# Altium integrated library Linear Technology Operational Amplifiers (LT2000-LT6000).IntLib: 1710 symbols (part 61 of 75)
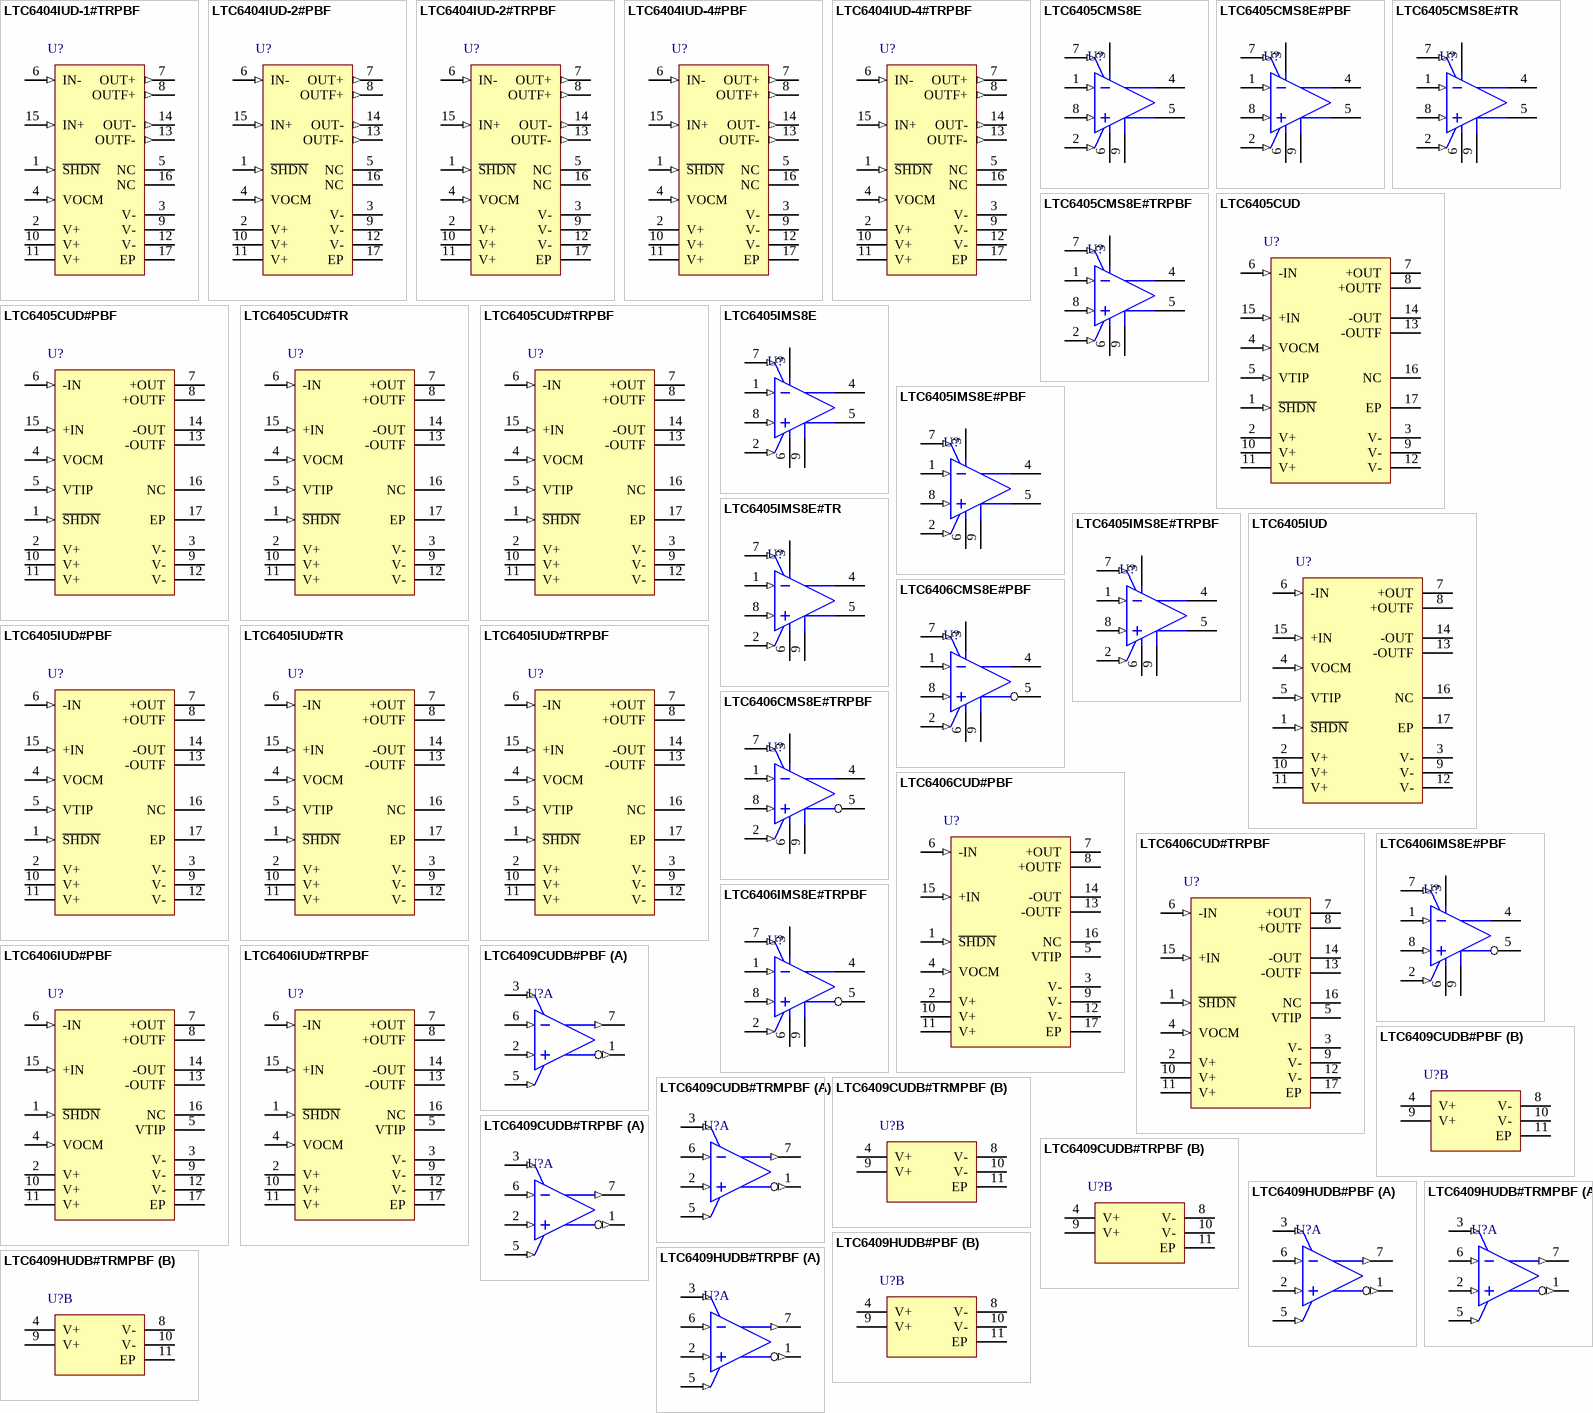
[diagram p140: symbols LTC6404IUD-1#TRPBF to LTC6409HUDB#TRPBF]

## LTC6404IUD-4#PBF
designator U?
Single Channel, Low Noise, High Precision, Fully Differential Input / Output Amplifier / Driver, 1700 MHz Typical GBW, 1200 V/us Typical SR, 2.7 to 5.5 V, 16-Pin QFN (UD-16), Industrial, Pb-Free; Linear Technology Part Number: LTC6404-4; Manufacturer: Linear Technology; PartNumber: LTC6404IUD-4#PBF; Channels (#): 1; GBW (MHz) Typical: 1700; Is (mA) Typical: 30; SR (V/us) Typical: 1200; Vos (mV) Typical: 0.5; Vs Max (V): 5.5; Vs Min (V): 2.7; PackageReference: LT-UD-16; PackageDescription: 16-Lead Plastic QFN, Body 3.00 x 3.00 mm, Pitch 0.5 mm; Supplier 1: Digi-Key; Supplier Part Number 1: LTC6404IUD-4#PBF-ND; Supplier 2: Newark; Supplier Part Number 2: 95M6541; RoHS: Pb-Free; Type: DIFF; Mounting Technology: Surface Mount; Code_JEDEC: MO-220; ComponentLink1Description: Manufacturer URL; ComponentLink1URL: http://www.linear.com/; ComponentLink2Description: Datasheet; ComponentLink2URL: http://cds.linear.com/docs/en/datasheet/6404f.pdf; ComponentLink3Description: Package Specification; ComponentLink3URL: http://cds.linear.com/docs/en/packaging/QFN_16_05-08-1691.pdf
footprint LT-UD-16_N (QFN, 16-Leads, Body 3x3mm, Pitch 0.5mm, Thermal Pad 1.45x1.45mm, IPC Medium Density)
footprint LT-UD-16_L (QFN, 16-Leads, Body 3x3mm, Pitch 0.5mm, Thermal Pad 1.45x1.45mm, IPC High Density)
footprint LT-UD-16_M (QFN, 16-Leads, Body 3x3mm, Pitch 0.5mm, Thermal Pad 1.45x1.45mm, IPC Low Density)
pins: 1 ~{SHDN} (in) "When S\H\D\N\ is floating or directly tied to V+, the LTC6404 is in the normal (active) operating mode. When Pin 1 is pulled a minimum of 2.1V below V+, the LTC6404 enters into a low power shutdown state. See Applications (See Datasheet)", 2 V+ (power) "Power Supply Pins. Three pairs of power supply pins are provided to keep the power supply inductance as low as possible to prevent degradation of amplifier 2nd harmonic performance. See the Layout Considerations section for (See Datasheet)", 3 V- (power) "Power Supply Pins. Three pairs of power supply pins are provided to keep the power supply inductance as low as possible to prevent degradation of amplifier 2nd harmonic performance. See the Layout Considerations section for (See Datasheet)", 4 VOCM (in) "Output Common Mode Reference Voltage. The voltage on VOCM sets the output common mode voltage level (which is defined as the average of the voltages on the OUT+ and OUT- pins). The VOCM pin is the midpoint of an internal (See Datasheet)", 5 NC "No Connection. These pins are not connected internally.", 6 IN- (in) "Noninverting and Inverting Input Pins of the Amplifier, Respectively. For best performance, it is highly recommended that stray capacitance be kept to an absolute minimum by keeping printed circuit connections as short as (See Datasheet)", 7 OUT+ (out) "Unfiltered Output Pins. Besides driving the feedback network, each pin can drive an additional 50ohm to ground with typical short-circuit current limiting of +/-65mA. Each amplifier output is designed to drive a load (See Datasheet)", 8 OUTF+ (out) "Filtered Output Pins. These pins have a series 50ohm resistor connected between the filtered and unfiltered outputs and three 12pF capacitors. Both OUTF+ and OUTF- have 12pF to V-, plus an additional 12pF differentially (See Datasheet)", 9 V- (power) "Power Supply Pins. Three pairs of power supply pins are provided to keep the power supply inductance as low as possible to prevent degradation of amplifier 2nd harmonic performance. See the Layout Considerations section for (See Datasheet)", 10 V+ (power) "Power Supply Pins. Three pairs of power supply pins are provided to keep the power supply inductance as low as possible to prevent degradation of amplifier 2nd harmonic performance. See the Layout Considerations section for (See Datasheet)", 11 V+ (power) "Power Supply Pins. Three pairs of power supply pins are provided to keep the power supply inductance as low as possible to prevent degradation of amplifier 2nd harmonic performance. See the Layout Considerations section for (See Datasheet)", 12 V- (power) "Power Supply Pins. Three pairs of power supply pins are provided to keep the power supply inductance as low as possible to prevent degradation of amplifier 2nd harmonic performance. See the Layout Considerations section for (See Datasheet)", 13 OUTF- (out) "Filtered Output Pins. These pins have a series 50ohm resistor connected between the filtered and unfiltered outputs and three 12pF capacitors. Both OUTF+ and OUTF- have 12pF to V-, plus an additional 12pF differentially (See Datasheet)", 14 OUT- (out) "Unfiltered Output Pins. Besides driving the feedback network, each pin can drive an additional 50ohm to ground with typical short-circuit current limiting of +/-65mA. Each amplifier output is designed to drive a load (See Datasheet)", 15 IN+ (in) "Noninverting and Inverting Input Pins of the Amplifier, Respectively. For best performance, it is highly recommended that stray capacitance be kept to an absolute minimum by keeping printed circuit connections as short as (See Datasheet)", 16 NC "No Connection. These pins are not connected internally.", 17 EP (power) "Tie the pad to V- (Pins 3, 9, and 12). If split supplies are used, do not tie the pad to ground."

## LTC6404IUD-4#TRPBF
designator U?
Single Channel, Low Noise, High Precision, Fully Differential Input / Output Amplifier / Driver, 1700 MHz Typical GBW, 1200 V/us Typical SR, 2.7 to 5.5 V, 16-Pin QFN (UD-16), Industrial, Pb-Free, Reel; Linear Technology Part Number: LTC6404-4; Manufacturer: Linear Technology; PartNumber: LTC6404IUD-4#TRPBF; Channels (#): 1; GBW (MHz) Typical: 1700; Is (mA) Typical: 30; SR (V/us) Typical: 1200; Vos (mV) Typical: 0.5; Vs Max (V): 5.5; Vs Min (V): 2.7; PackageReference: LT-UD-16; PackageDescription: 16-Lead Plastic QFN, Body 3.00 x 3.00 mm, Pitch 0.5 mm; Supplier 1: Digi-Key; Supplier Part Number 1: LTC6404IUD-4#TRPBF-ND; Packing: Reel; RoHS: Pb-Free; Type: DIFF; Mounting Technology: Surface Mount; Code_JEDEC: MO-220; ComponentLink1Description: Manufacturer URL; ComponentLink1URL: http://www.linear.com/; ComponentLink2Description: Datasheet; ComponentLink2URL: http://cds.linear.com/docs/en/datasheet/6404f.pdf; ComponentLink3Description: Package Specification; ComponentLink3URL: http://cds.linear.com/docs/en/packaging/QFN_16_05-08-1691.pdf
footprint LT-UD-16_N (QFN, 16-Leads, Body 3x3mm, Pitch 0.5mm, Thermal Pad 1.45x1.45mm, IPC Medium Density)
footprint LT-UD-16_L (QFN, 16-Leads, Body 3x3mm, Pitch 0.5mm, Thermal Pad 1.45x1.45mm, IPC High Density)
footprint LT-UD-16_M (QFN, 16-Leads, Body 3x3mm, Pitch 0.5mm, Thermal Pad 1.45x1.45mm, IPC Low Density)
pins: 1 ~{SHDN} (in) "When S\H\D\N\ is floating or directly tied to V+, the LTC6404 is in the normal (active) operating mode. When Pin 1 is pulled a minimum of 2.1V below V+, the LTC6404 enters into a low power shutdown state. See Applications (See Datasheet)", 2 V+ (power) "Power Supply Pins. Three pairs of power supply pins are provided to keep the power supply inductance as low as possible to prevent degradation of amplifier 2nd harmonic performance. See the Layout Considerations section for (See Datasheet)", 3 V- (power) "Power Supply Pins. Three pairs of power supply pins are provided to keep the power supply inductance as low as possible to prevent degradation of amplifier 2nd harmonic performance. See the Layout Considerations section for (See Datasheet)", 4 VOCM (in) "Output Common Mode Reference Voltage. The voltage on VOCM sets the output common mode voltage level (which is defined as the average of the voltages on the OUT+ and OUT- pins). The VOCM pin is the midpoint of an internal (See Datasheet)", 5 NC "No Connection. These pins are not connected internally.", 6 IN- (in) "Noninverting and Inverting Input Pins of the Amplifier, Respectively. For best performance, it is highly recommended that stray capacitance be kept to an absolute minimum by keeping printed circuit connections as short as (See Datasheet)", 7 OUT+ (out) "Unfiltered Output Pins. Besides driving the feedback network, each pin can drive an additional 50ohm to ground with typical short-circuit current limiting of +/-65mA. Each amplifier output is designed to drive a load (See Datasheet)", 8 OUTF+ (out) "Filtered Output Pins. These pins have a series 50ohm resistor connected between the filtered and unfiltered outputs and three 12pF capacitors. Both OUTF+ and OUTF- have 12pF to V-, plus an additional 12pF differentially (See Datasheet)", 9 V- (power) "Power Supply Pins. Three pairs of power supply pins are provided to keep the power supply inductance as low as possible to prevent degradation of amplifier 2nd harmonic performance. See the Layout Considerations section for (See Datasheet)", 10 V+ (power) "Power Supply Pins. Three pairs of power supply pins are provided to keep the power supply inductance as low as possible to prevent degradation of amplifier 2nd harmonic performance. See the Layout Considerations section for (See Datasheet)", 11 V+ (power) "Power Supply Pins. Three pairs of power supply pins are provided to keep the power supply inductance as low as possible to prevent degradation of amplifier 2nd harmonic performance. See the Layout Considerations section for (See Datasheet)", 12 V- (power) "Power Supply Pins. Three pairs of power supply pins are provided to keep the power supply inductance as low as possible to prevent degradation of amplifier 2nd harmonic performance. See the Layout Considerations section for (See Datasheet)", 13 OUTF- (out) "Filtered Output Pins. These pins have a series 50ohm resistor connected between the filtered and unfiltered outputs and three 12pF capacitors. Both OUTF+ and OUTF- have 12pF to V-, plus an additional 12pF differentially (See Datasheet)", 14 OUT- (out) "Unfiltered Output Pins. Besides driving the feedback network, each pin can drive an additional 50ohm to ground with typical short-circuit current limiting of +/-65mA. Each amplifier output is designed to drive a load (See Datasheet)", 15 IN+ (in) "Noninverting and Inverting Input Pins of the Amplifier, Respectively. For best performance, it is highly recommended that stray capacitance be kept to an absolute minimum by keeping printed circuit connections as short as (See Datasheet)", 16 NC "No Connection. These pins are not connected internally.", 17 EP (power) "Tie the pad to V- (Pins 3, 9, and 12). If split supplies are used, do not tie the pad to ground."

## LTC6405CMS8E
designator U?
Single Channel, Low Noise, Rail-to-Rail Input Differential Amplifier / Driver, 2700 MHz Typical GBW, 690 V/us Typical SR, 4.5 to 5.5 V, 8-Pin SOP (MS8E-8), Commercial; Linear Technology Part Number: LTC6405; Manufacturer: Linear Technology; PartNumber: LTC6405CMS8E; Channels (#): 1; GBW (MHz) Typical: 2700; Is (mA) Typical: 18; SR (V/us) Typical: 690; Vos (mV) Typical: 6; Vs Max (V): 5.5; Vs Min (V): 4.5; DatasheetVersion: Rev. A; PackageVersion: Rev J; PackageReference: LT-MS8E-8-EDP; PackageDescription: 8-Lead Plastic MSOP, Body 3.00 x 3.00 mm. Pitch 0.65 mm; Type: DIFF; Mounting Technology: Surface Mount; ComponentLink1Description: Manufacturer URL; ComponentLink1URL: http://www.linear.com/; ComponentLink2Description: Datasheet; ComponentLink2URL: http://cds.linear.com/docs/en/datasheet/6405fa.pdf; ComponentLink3Description: Package Specification; ComponentLink3URL: http://cds.linear.com/docs/en/packaging/05081662_J_MS8E.pdf
footprint LT-MS8E-8-EDP_N (SOP, 8-Leads, Body 3x3mm, Pitch 0.65mm, Thermal Pad 1.88x1.68mm, IPC Medium Density)
footprint LT-MS8E-8-EDP_L (SOP, 8-Leads, Body 3x3mm, Pitch 0.65mm, Thermal Pad 1.88x1.68mm, IPC High Density)
footprint LT-MS8E-8-EDP_M (SOP, 8-Leads, Body 3x3mm, Pitch 0.65mm, Thermal Pad 1.88x1.68mm, IPC Low Density)
pins: 1 -IN (in) "Inverting  Pin of the Amplifi er, Respectively. For best perfor- mance, it is highly recommended that stray capacitance  be kept to an absolute minimum by keeping printed circuit  connections as short as possible.", 2 VOCM (in) "Output Common Mode Reference  Voltage. The voltage on VOCM sets the output common  mode voltage level (which is defi ned as the average of the  voltages on the +OUT and -OUT pins). The VOCM voltage  is internally set by a (See Datasheet)", 3 V+ (power) "Power Supply Pins. It is critical that close attention be  paid to supply bypassing. For single supply applications,  it is recommended that a high quality 0.1uF surface mount  ceramic bypass capacitor be placed between V+ (See Datasheet)", 4 +OUT (hiz) "Unfi ltered Output  Pins. Besides driving the feedback network, each pin  can drive an additional 50ohm to ground with typical short  circuit current limiting of +/-60mA. Each amplifi er output is designed to drive a load (See Datasheet)", 5 -OUT (hiz) "Unfi ltered Output  Pins. Besides driving the feedback network, each pin  can drive an additional 50ohm to ground with typical short  circuit current limiting of +/-60mA. Each amplifi er output is designed to drive a load (See Datasheet)", 6 V- (power) "Power Supply Pins. It is critical that close attention be  paid to supply bypassing. For single supply applications,  it is recommended that a high quality 0.1uF surface mount  ceramic bypass capacitor be placed between V+ (See Datasheet)", 7 ~{SHDN} (in) "When S\H\D\N\ is fl oating or directly  tied to V+, the LTC6405 is in the normal (active) operat- ing mode. When the S\H\D\N\ pin is connected to V-, the  LTC6405 enters into a low power shutdown state with  Hi-Z outputs.", 8 +IN (in) "Noninverting Pin of the Amplifi er, Respectively. For best perfor- mance, it is highly recommended that stray capacitance  be kept to an absolute minimum by keeping printed circuit  connections as short as possible.", 9 EP (power) "EXPOSED PAD"

## LTC6405CMS8E#PBF
designator U?
Single Channel, Low Noise, Rail-to-Rail Input Differential Amplifier / Driver, 2700 MHz Typical GBW, 690 V/us Typical SR, 4.5 to 5.5 V, 8-Pin SOP (MS8E-8), Commercial, Pb-Free; Linear Technology Part Number: LTC6405; Manufacturer: Linear Technology; PartNumber: LTC6405CMS8E#PBF; Channels (#): 1; GBW (MHz) Typical: 2700; Is (mA) Typical: 18; SR (V/us) Typical: 690; Vos (mV) Typical: 6; Vs Max (V): 5.5; Vs Min (V): 4.5; DatasheetVersion: Rev. A; PackageVersion: Rev J; PackageReference: LT-MS8E-8-EDP; PackageDescription: 8-Lead Plastic MSOP, Body 3.00 x 3.00 mm. Pitch 0.65 mm; Supplier 1: Digi-Key; Supplier Part Number 1: LTC6405CMS8E#PBF-ND; Supplier 2: Farnell; Supplier Part Number 2: 1696239; Supplier 3: Newark; Supplier Part Number 3: 44P3995; RoHS: Pb-Free; Type: DIFF; Mounting Technology: Surface Mount; ComponentLink1Description: Manufacturer URL; ComponentLink1URL: http://www.linear.com/; ComponentLink2Description: Datasheet; ComponentLink2URL: http://cds.linear.com/docs/en/datasheet/6405fa.pdf; ComponentLink3Description: Package Specification; ComponentLink3URL: http://cds.linear.com/docs/en/packaging/05081662_J_MS8E.pdf
footprint LT-MS8E-8-EDP_N (SOP, 8-Leads, Body 3x3mm, Pitch 0.65mm, Thermal Pad 1.88x1.68mm, IPC Medium Density)
footprint LT-MS8E-8-EDP_L (SOP, 8-Leads, Body 3x3mm, Pitch 0.65mm, Thermal Pad 1.88x1.68mm, IPC High Density)
footprint LT-MS8E-8-EDP_M (SOP, 8-Leads, Body 3x3mm, Pitch 0.65mm, Thermal Pad 1.88x1.68mm, IPC Low Density)
pins: 1 -IN (in) "Inverting  Pin of the Amplifi er, Respectively. For best perfor- mance, it is highly recommended that stray capacitance  be kept to an absolute minimum by keeping printed circuit  connections as short as possible.", 2 VOCM (in) "Output Common Mode Reference  Voltage. The voltage on VOCM sets the output common  mode voltage level (which is defi ned as the average of the  voltages on the +OUT and -OUT pins). The VOCM voltage  is internally set by a (See Datasheet)", 3 V+ (power) "Power Supply Pins. It is critical that close attention be  paid to supply bypassing. For single supply applications,  it is recommended that a high quality 0.1uF surface mount  ceramic bypass capacitor be placed between V+ (See Datasheet)", 4 +OUT (hiz) "Unfi ltered Output  Pins. Besides driving the feedback network, each pin  can drive an additional 50ohm to ground with typical short  circuit current limiting of +/-60mA. Each amplifi er output is designed to drive a load (See Datasheet)", 5 -OUT (hiz) "Unfi ltered Output  Pins. Besides driving the feedback network, each pin  can drive an additional 50ohm to ground with typical short  circuit current limiting of +/-60mA. Each amplifi er output is designed to drive a load (See Datasheet)", 6 V- (power) "Power Supply Pins. It is critical that close attention be  paid to supply bypassing. For single supply applications,  it is recommended that a high quality 0.1uF surface mount  ceramic bypass capacitor be placed between V+ (See Datasheet)", 7 ~{SHDN} (in) "When S\H\D\N\ is fl oating or directly  tied to V+, the LTC6405 is in the normal (active) operat- ing mode. When the S\H\D\N\ pin is connected to V-, the  LTC6405 enters into a low power shutdown state with  Hi-Z outputs.", 8 +IN (in) "Noninverting Pin of the Amplifi er, Respectively. For best perfor- mance, it is highly recommended that stray capacitance  be kept to an absolute minimum by keeping printed circuit  connections as short as possible.", 9 EP (power) "EXPOSED PAD"

## LTC6405CMS8E#TR
designator U?
Single Channel, Low Noise, Rail-to-Rail Input Differential Amplifier / Driver, 2700 MHz Typical GBW, 690 V/us Typical SR, 4.5 to 5.5 V, 8-Pin SOP (MS8E-8), Commercial, Reel; Linear Technology Part Number: LTC6405; Manufacturer: Linear Technology; PartNumber: LTC6405CMS8E#TR; Channels (#): 1; GBW (MHz) Typical: 2700; Is (mA) Typical: 18; SR (V/us) Typical: 690; Vos (mV) Typical: 6; Vs Max (V): 5.5; Vs Min (V): 4.5; DatasheetVersion: Rev. A; PackageVersion: Rev J; PackageReference: LT-MS8E-8-EDP; PackageDescription: 8-Lead Plastic MSOP, Body 3.00 x 3.00 mm. Pitch 0.65 mm; Supplier 1: Newark; Supplier Part Number 1: 44P3996; Packing: Reel; Type: DIFF; Mounting Technology: Surface Mount; ComponentLink1Description: Manufacturer URL; ComponentLink1URL: http://www.linear.com/; ComponentLink2Description: Datasheet; ComponentLink2URL: http://cds.linear.com/docs/en/datasheet/6405fa.pdf; ComponentLink3Description: Package Specification; ComponentLink3URL: http://cds.linear.com/docs/en/packaging/05081662_J_MS8E.pdf
footprint LT-MS8E-8-EDP_N (SOP, 8-Leads, Body 3x3mm, Pitch 0.65mm, Thermal Pad 1.88x1.68mm, IPC Medium Density)
footprint LT-MS8E-8-EDP_L (SOP, 8-Leads, Body 3x3mm, Pitch 0.65mm, Thermal Pad 1.88x1.68mm, IPC High Density)
footprint LT-MS8E-8-EDP_M (SOP, 8-Leads, Body 3x3mm, Pitch 0.65mm, Thermal Pad 1.88x1.68mm, IPC Low Density)
pins: 1 -IN (in) "Inverting  Pin of the Amplifi er, Respectively. For best perfor- mance, it is highly recommended that stray capacitance  be kept to an absolute minimum by keeping printed circuit  connections as short as possible.", 2 VOCM (in) "Output Common Mode Reference  Voltage. The voltage on VOCM sets the output common  mode voltage level (which is defi ned as the average of the  voltages on the +OUT and -OUT pins). The VOCM voltage  is internally set by a (See Datasheet)", 3 V+ (power) "Power Supply Pins. It is critical that close attention be  paid to supply bypassing. For single supply applications,  it is recommended that a high quality 0.1uF surface mount  ceramic bypass capacitor be placed between V+ (See Datasheet)", 4 +OUT (hiz) "Unfi ltered Output  Pins. Besides driving the feedback network, each pin  can drive an additional 50ohm to ground with typical short  circuit current limiting of +/-60mA. Each amplifi er output is designed to drive a load (See Datasheet)", 5 -OUT (hiz) "Unfi ltered Output  Pins. Besides driving the feedback network, each pin  can drive an additional 50ohm to ground with typical short  circuit current limiting of +/-60mA. Each amplifi er output is designed to drive a load (See Datasheet)", 6 V- (power) "Power Supply Pins. It is critical that close attention be  paid to supply bypassing. For single supply applications,  it is recommended that a high quality 0.1uF surface mount  ceramic bypass capacitor be placed between V+ (See Datasheet)", 7 ~{SHDN} (in) "When S\H\D\N\ is fl oating or directly  tied to V+, the LTC6405 is in the normal (active) operat- ing mode. When the S\H\D\N\ pin is connected to V-, the  LTC6405 enters into a low power shutdown state with  Hi-Z outputs.", 8 +IN (in) "Noninverting Pin of the Amplifi er, Respectively. For best perfor- mance, it is highly recommended that stray capacitance  be kept to an absolute minimum by keeping printed circuit  connections as short as possible.", 9 EP (power) "EXPOSED PAD"

## LTC6405CMS8E#TRPBF
designator U?
Single Channel, Low Noise, Rail-to-Rail Input Differential Amplifier / Driver, 2700 MHz Typical GBW, 690 V/us Typical SR, 4.5 to 5.5 V, 8-Pin SOP (MS8E-8), Commercial, Pb-Free, Reel; Linear Technology Part Number: LTC6405; Manufacturer: Linear Technology; PartNumber: LTC6405CMS8E#TRPBF; Channels (#): 1; GBW (MHz) Typical: 2700; Is (mA) Typical: 18; SR (V/us) Typical: 690; Vos (mV) Typical: 6; Vs Max (V): 5.5; Vs Min (V): 4.5; DatasheetVersion: Rev. A; PackageVersion: Rev J; PackageReference: LT-MS8E-8-EDP; PackageDescription: 8-Lead Plastic MSOP, Body 3.00 x 3.00 mm. Pitch 0.65 mm; Supplier 1: Digi-Key; Supplier Part Number 1: LTC6405CMS8E#TRPBF-ND; Supplier 2: Newark; Supplier Part Number 2: 44P3997; Packing: Reel; RoHS: Pb-Free; Type: DIFF; Mounting Technology: Surface Mount; ComponentLink1Description: Manufacturer URL; ComponentLink1URL: http://www.linear.com/; ComponentLink2Description: Datasheet; ComponentLink2URL: http://cds.linear.com/docs/en/datasheet/6405fa.pdf; ComponentLink3Description: Package Specification; ComponentLink3URL: http://cds.linear.com/docs/en/packaging/05081662_J_MS8E.pdf
footprint LT-MS8E-8-EDP_N (SOP, 8-Leads, Body 3x3mm, Pitch 0.65mm, Thermal Pad 1.88x1.68mm, IPC Medium Density)
footprint LT-MS8E-8-EDP_L (SOP, 8-Leads, Body 3x3mm, Pitch 0.65mm, Thermal Pad 1.88x1.68mm, IPC High Density)
footprint LT-MS8E-8-EDP_M (SOP, 8-Leads, Body 3x3mm, Pitch 0.65mm, Thermal Pad 1.88x1.68mm, IPC Low Density)
pins: 1 -IN (in) "Inverting  Pin of the Amplifi er, Respectively. For best perfor- mance, it is highly recommended that stray capacitance  be kept to an absolute minimum by keeping printed circuit  connections as short as possible.", 2 VOCM (in) "Output Common Mode Reference  Voltage. The voltage on VOCM sets the output common  mode voltage level (which is defi ned as the average of the  voltages on the +OUT and -OUT pins). The VOCM voltage  is internally set by a (See Datasheet)", 3 V+ (power) "Power Supply Pins. It is critical that close attention be  paid to supply bypassing. For single supply applications,  it is recommended that a high quality 0.1uF surface mount  ceramic bypass capacitor be placed between V+ (See Datasheet)", 4 +OUT (hiz) "Unfi ltered Output  Pins. Besides driving the feedback network, each pin  can drive an additional 50ohm to ground with typical short  circuit current limiting of +/-60mA. Each amplifi er output is designed to drive a load (See Datasheet)", 5 -OUT (hiz) "Unfi ltered Output  Pins. Besides driving the feedback network, each pin  can drive an additional 50ohm to ground with typical short  circuit current limiting of +/-60mA. Each amplifi er output is designed to drive a load (See Datasheet)", 6 V- (power) "Power Supply Pins. It is critical that close attention be  paid to supply bypassing. For single supply applications,  it is recommended that a high quality 0.1uF surface mount  ceramic bypass capacitor be placed between V+ (See Datasheet)", 7 ~{SHDN} (in) "When S\H\D\N\ is fl oating or directly  tied to V+, the LTC6405 is in the normal (active) operat- ing mode. When the S\H\D\N\ pin is connected to V-, the  LTC6405 enters into a low power shutdown state with  Hi-Z outputs.", 8 +IN (in) "Noninverting Pin of the Amplifi er, Respectively. For best perfor- mance, it is highly recommended that stray capacitance  be kept to an absolute minimum by keeping printed circuit  connections as short as possible.", 9 EP (power) "EXPOSED PAD"

## LTC6405CUD
designator U?
Single Channel, Low Noise, Rail-to-Rail Input Differential Amplifier / Driver, 2700 MHz Typical GBW, 690 V/us Typical SR, 4.5 to 5.5 V, 16-Pin QFN (UD-16), Commercial; Linear Technology Part Number: LTC6405; Manufacturer: Linear Technology; PartNumber: LTC6405CUD; Channels (#): 1; GBW (MHz) Typical: 2700; Is (mA) Typical: 18; SR (V/us) Typical: 690; Vos (mV) Typical: 6; Vs Max (V): 5.5; Vs Min (V): 4.5; DatasheetVersion: Rev. A; PackageReference: LT-UD-16; PackageDescription: 16-Lead Plastic QFN, Body 3.00 x 3.00 mm, Pitch 0.5 mm; Supplier 1: Farnell; Supplier Part Number 1: 1647764; Type: DIFF; Mounting Technology: Surface Mount; Code_JEDEC: MO-220; ComponentLink1Description: Manufacturer URL; ComponentLink1URL: http://www.linear.com/; ComponentLink2Description: Datasheet; ComponentLink2URL: http://cds.linear.com/docs/en/datasheet/6405fa.pdf; ComponentLink3Description: Package Specification; ComponentLink3URL: http://cds.linear.com/docs/en/packaging/QFN_16_05-08-1691.pdf
footprint LT-UD-16_N (QFN, 16-Leads, Body 3x3mm, Pitch 0.5mm, Thermal Pad 1.45x1.45mm, IPC Medium Density)
footprint LT-UD-16_L (QFN, 16-Leads, Body 3x3mm, Pitch 0.5mm, Thermal Pad 1.45x1.45mm, IPC High Density)
footprint LT-UD-16_M (QFN, 16-Leads, Body 3x3mm, Pitch 0.5mm, Thermal Pad 1.45x1.45mm, IPC Low Density)
pins: 1 ~{SHDN} (in) "When S\H\D\N\ is fl oating or directly tied to V+, the LTC6405 is in the normal (active) operating mode. When the S\H\D\N\ pin is connected to V-, the LTC6405 enters into a low power shutdown state with Hi-Z outputs.", 2 V+ (power) "Power Supply Pins. It is critical that close attention be paid to supply bypassing. For single supply applications, it is recommended that a high quality 0.1uF surface mount ceramic bypass capacitor be placed between V+ and (See Datasheet)", 3 V- (power) "Power Supply Pins. It is critical that close attention be paid to supply bypassing. For single supply applications, it is recommended that a high quality 0.1uF surface mount ceramic bypass capacitor be placed between V+ and (See Datasheet)", 4 VOCM (in) "Output Common Mode Reference Voltage. The voltage on VOCM sets the output common mode voltage level (which is defi ned as the average of the voltages on the +OUT and -OUT pins). The VOCM voltage is internally set by a (See Datasheet)", 5 VTIP (in) "This pin can normally be left fl oating. It determines which pair of input transistors (NPN or PNP or both) is sensing the input signal. The VTIP pin is set by an internal resistive divider between the supplies, developing a (See Datasheet)", 6 -IN (in) "Noninverting and Inverting Input Pins of the Amplifi er, Respectively. For best performance, it is highly recommended that stray capacitance be kept to an absolute minimum by keeping printed circuit connections as short as (See Datasheet)", 7 +OUT (hiz) "Unfi ltered Output Pins. Besides driving the feedback network, each pin can drive an additional 50ohm to ground with typical short circuit current limiting of +/-60mA. Each amplifi er output is designed to drive a load (See Datasheet)", 8 +OUTF (hiz) "Filtered Output Pins. These pins have a series RC network (R = 50ohm, C = 3.75pF) connected between the fi ltered and unfi ltered outputs. See the Applications Information section for more details.", 9 V- (power) "Power Supply Pins. It is critical that close attention be paid to supply bypassing. For single supply applications, it is recommended that a high quality 0.1uF surface mount ceramic bypass capacitor be placed between V+ and (See Datasheet)", 10 V+ (power) "Power Supply Pins. It is critical that close attention be paid to supply bypassing. For single supply applications, it is recommended that a high quality 0.1uF surface mount ceramic bypass capacitor be placed between V+ and (See Datasheet)", 11 V+ (power) "Power Supply Pins. It is critical that close attention be paid to supply bypassing. For single supply applications, it is recommended that a high quality 0.1uF surface mount ceramic bypass capacitor be placed between V+ and (See Datasheet)", 12 V- (power) "Power Supply Pins. It is critical that close attention be paid to supply bypassing. For single supply applications, it is recommended that a high quality 0.1uF surface mount ceramic bypass capacitor be placed between V+ and (See Datasheet)", 13 -OUTF (hiz) "Filtered Output Pins. These pins have a series RC network (R = 50ohm, C = 3.75pF) connected between the fi ltered and unfi ltered outputs. See the Applications Information section for more details.", 14 -OUT (hiz) "Unfi ltered Output Pins. Besides driving the feedback network, each pin can drive an additional 50ohm to ground with typical short circuit current limiting of +/-60mA. Each amplifi er output is designed to drive a load (See Datasheet)", 15 +IN (in) "Noninverting and Inverting Input Pins of the Amplifi er, Respectively. For best performance, it is highly recommended that stray capacitance be kept to an absolute minimum by keeping printed circuit connections as short as (See Datasheet)", 16 NC "No Connection. This pin is not connected internally.", 17 EP (power) "Tie the bottom pad to V-. If split supplies are used, DO NOT tie the pad to ground."

## LTC6405CUD#PBF
designator U?
Single Channel, Low Noise, Rail-to-Rail Input Differential Amplifier / Driver, 2700 MHz Typical GBW, 690 V/us Typical SR, 4.5 to 5.5 V, 16-Pin QFN (UD-16), Commercial, Pb-Free; Linear Technology Part Number: LTC6405; Manufacturer: Linear Technology; PartNumber: LTC6405CUD#PBF; Channels (#): 1; GBW (MHz) Typical: 2700; Is (mA) Typical: 18; SR (V/us) Typical: 690; Vos (mV) Typical: 6; Vs Max (V): 5.5; Vs Min (V): 4.5; DatasheetVersion: Rev. A; PackageReference: LT-UD-16; PackageDescription: 16-Lead Plastic QFN, Body 3.00 x 3.00 mm, Pitch 0.5 mm; Supplier 1: Digi-Key; Supplier Part Number 1: LTC6405CUD#PBF-ND; Supplier 2: Newark; Supplier Part Number 2: 15N3551; RoHS: Pb-Free; Type: DIFF; Mounting Technology: Surface Mount; Code_JEDEC: MO-220; ComponentLink1Description: Manufacturer URL; ComponentLink1URL: http://www.linear.com/; ComponentLink2Description: Datasheet; ComponentLink2URL: http://cds.linear.com/docs/en/datasheet/6405fa.pdf; ComponentLink3Description: Package Specification; ComponentLink3URL: http://cds.linear.com/docs/en/packaging/QFN_16_05-08-1691.pdf
footprint LT-UD-16_N (QFN, 16-Leads, Body 3x3mm, Pitch 0.5mm, Thermal Pad 1.45x1.45mm, IPC Medium Density)
footprint LT-UD-16_L (QFN, 16-Leads, Body 3x3mm, Pitch 0.5mm, Thermal Pad 1.45x1.45mm, IPC High Density)
footprint LT-UD-16_M (QFN, 16-Leads, Body 3x3mm, Pitch 0.5mm, Thermal Pad 1.45x1.45mm, IPC Low Density)
pins: 1 ~{SHDN} (in) "When S\H\D\N\ is fl oating or directly tied to V+, the LTC6405 is in the normal (active) operating mode. When the S\H\D\N\ pin is connected to V-, the LTC6405 enters into a low power shutdown state with Hi-Z outputs.", 2 V+ (power) "Power Supply Pins. It is critical that close attention be paid to supply bypassing. For single supply applications, it is recommended that a high quality 0.1uF surface mount ceramic bypass capacitor be placed between V+ and (See Datasheet)", 3 V- (power) "Power Supply Pins. It is critical that close attention be paid to supply bypassing. For single supply applications, it is recommended that a high quality 0.1uF surface mount ceramic bypass capacitor be placed between V+ and (See Datasheet)", 4 VOCM (in) "Output Common Mode Reference Voltage. The voltage on VOCM sets the output common mode voltage level (which is defi ned as the average of the voltages on the +OUT and -OUT pins). The VOCM voltage is internally set by a (See Datasheet)", 5 VTIP (in) "This pin can normally be left fl oating. It determines which pair of input transistors (NPN or PNP or both) is sensing the input signal. The VTIP pin is set by an internal resistive divider between the supplies, developing a (See Datasheet)", 6 -IN (in) "Noninverting and Inverting Input Pins of the Amplifi er, Respectively. For best performance, it is highly recommended that stray capacitance be kept to an absolute minimum by keeping printed circuit connections as short as (See Datasheet)", 7 +OUT (hiz) "Unfi ltered Output Pins. Besides driving the feedback network, each pin can drive an additional 50ohm to ground with typical short circuit current limiting of +/-60mA. Each amplifi er output is designed to drive a load (See Datasheet)", 8 +OUTF (hiz) "Filtered Output Pins. These pins have a series RC network (R = 50ohm, C = 3.75pF) connected between the fi ltered and unfi ltered outputs. See the Applications Information section for more details.", 9 V- (power) "Power Supply Pins. It is critical that close attention be paid to supply bypassing. For single supply applications, it is recommended that a high quality 0.1uF surface mount ceramic bypass capacitor be placed between V+ and (See Datasheet)", 10 V+ (power) "Power Supply Pins. It is critical that close attention be paid to supply bypassing. For single supply applications, it is recommended that a high quality 0.1uF surface mount ceramic bypass capacitor be placed between V+ and (See Datasheet)", 11 V+ (power) "Power Supply Pins. It is critical that close attention be paid to supply bypassing. For single supply applications, it is recommended that a high quality 0.1uF surface mount ceramic bypass capacitor be placed between V+ and (See Datasheet)", 12 V- (power) "Power Supply Pins. It is critical that close attention be paid to supply bypassing. For single supply applications, it is recommended that a high quality 0.1uF surface mount ceramic bypass capacitor be placed between V+ and (See Datasheet)", 13 -OUTF (hiz) "Filtered Output Pins. These pins have a series RC network (R = 50ohm, C = 3.75pF) connected between the fi ltered and unfi ltered outputs. See the Applications Information section for more details.", 14 -OUT (hiz) "Unfi ltered Output Pins. Besides driving the feedback network, each pin can drive an additional 50ohm to ground with typical short circuit current limiting of +/-60mA. Each amplifi er output is designed to drive a load (See Datasheet)", 15 +IN (in) "Noninverting and Inverting Input Pins of the Amplifi er, Respectively. For best performance, it is highly recommended that stray capacitance be kept to an absolute minimum by keeping printed circuit connections as short as (See Datasheet)", 16 NC "No Connection. This pin is not connected internally.", 17 EP (power) "Tie the bottom pad to V-. If split supplies are used, DO NOT tie the pad to ground."

## LTC6405CUD#TR
designator U?
Single Channel, Low Noise, Rail-to-Rail Input Differential Amplifier / Driver, 2700 MHz Typical GBW, 690 V/us Typical SR, 4.5 to 5.5 V, 16-Pin QFN (UD-16), Commercial, Reel; Linear Technology Part Number: LTC6405; Manufacturer: Linear Technology; PartNumber: LTC6405CUD#TR; Channels (#): 1; GBW (MHz) Typical: 2700; Is (mA) Typical: 18; SR (V/us) Typical: 690; Vos (mV) Typical: 6; Vs Max (V): 5.5; Vs Min (V): 4.5; DatasheetVersion: Rev. A; PackageReference: LT-UD-16; PackageDescription: 16-Lead Plastic QFN, Body 3.00 x 3.00 mm, Pitch 0.5 mm; Supplier 1: Newark; Supplier Part Number 1: 15N3552; Packing: Reel; Type: DIFF; Mounting Technology: Surface Mount; Code_JEDEC: MO-220; ComponentLink1Description: Manufacturer URL; ComponentLink1URL: http://www.linear.com/; ComponentLink2Description: Datasheet; ComponentLink2URL: http://cds.linear.com/docs/en/datasheet/6405fa.pdf; ComponentLink3Description: Package Specification; ComponentLink3URL: http://cds.linear.com/docs/en/packaging/QFN_16_05-08-1691.pdf
footprint LT-UD-16_N (QFN, 16-Leads, Body 3x3mm, Pitch 0.5mm, Thermal Pad 1.45x1.45mm, IPC Medium Density)
footprint LT-UD-16_L (QFN, 16-Leads, Body 3x3mm, Pitch 0.5mm, Thermal Pad 1.45x1.45mm, IPC High Density)
footprint LT-UD-16_M (QFN, 16-Leads, Body 3x3mm, Pitch 0.5mm, Thermal Pad 1.45x1.45mm, IPC Low Density)
pins: 1 ~{SHDN} (in) "When S\H\D\N\ is fl oating or directly tied to V+, the LTC6405 is in the normal (active) operating mode. When the S\H\D\N\ pin is connected to V-, the LTC6405 enters into a low power shutdown state with Hi-Z outputs.", 2 V+ (power) "Power Supply Pins. It is critical that close attention be paid to supply bypassing. For single supply applications, it is recommended that a high quality 0.1uF surface mount ceramic bypass capacitor be placed between V+ and (See Datasheet)", 3 V- (power) "Power Supply Pins. It is critical that close attention be paid to supply bypassing. For single supply applications, it is recommended that a high quality 0.1uF surface mount ceramic bypass capacitor be placed between V+ and (See Datasheet)", 4 VOCM (in) "Output Common Mode Reference Voltage. The voltage on VOCM sets the output common mode voltage level (which is defi ned as the average of the voltages on the +OUT and -OUT pins). The VOCM voltage is internally set by a (See Datasheet)", 5 VTIP (in) "This pin can normally be left fl oating. It determines which pair of input transistors (NPN or PNP or both) is sensing the input signal. The VTIP pin is set by an internal resistive divider between the supplies, developing a (See Datasheet)", 6 -IN (in) "Noninverting and Inverting Input Pins of the Amplifi er, Respectively. For best performance, it is highly recommended that stray capacitance be kept to an absolute minimum by keeping printed circuit connections as short as (See Datasheet)", 7 +OUT (hiz) "Unfi ltered Output Pins. Besides driving the feedback network, each pin can drive an additional 50ohm to ground with typical short circuit current limiting of +/-60mA. Each amplifi er output is designed to drive a load (See Datasheet)", 8 +OUTF (hiz) "Filtered Output Pins. These pins have a series RC network (R = 50ohm, C = 3.75pF) connected between the fi ltered and unfi ltered outputs. See the Applications Information section for more details.", 9 V- (power) "Power Supply Pins. It is critical that close attention be paid to supply bypassing. For single supply applications, it is recommended that a high quality 0.1uF surface mount ceramic bypass capacitor be placed between V+ and (See Datasheet)", 10 V+ (power) "Power Supply Pins. It is critical that close attention be paid to supply bypassing. For single supply applications, it is recommended that a high quality 0.1uF surface mount ceramic bypass capacitor be placed between V+ and (See Datasheet)", 11 V+ (power) "Power Supply Pins. It is critical that close attention be paid to supply bypassing. For single supply applications, it is recommended that a high quality 0.1uF surface mount ceramic bypass capacitor be placed between V+ and (See Datasheet)", 12 V- (power) "Power Supply Pins. It is critical that close attention be paid to supply bypassing. For single supply applications, it is recommended that a high quality 0.1uF surface mount ceramic bypass capacitor be placed between V+ and (See Datasheet)", 13 -OUTF (hiz) "Filtered Output Pins. These pins have a series RC network (R = 50ohm, C = 3.75pF) connected between the fi ltered and unfi ltered outputs. See the Applications Information section for more details.", 14 -OUT (hiz) "Unfi ltered Output Pins. Besides driving the feedback network, each pin can drive an additional 50ohm to ground with typical short circuit current limiting of +/-60mA. Each amplifi er output is designed to drive a load (See Datasheet)", 15 +IN (in) "Noninverting and Inverting Input Pins of the Amplifi er, Respectively. For best performance, it is highly recommended that stray capacitance be kept to an absolute minimum by keeping printed circuit connections as short as (See Datasheet)", 16 NC "No Connection. This pin is not connected internally.", 17 EP (power) "Tie the bottom pad to V-. If split supplies are used, DO NOT tie the pad to ground."

## LTC6405CUD#TRPBF
designator U?
Single Channel, Low Noise, Rail-to-Rail Input Differential Amplifier / Driver, 2700 MHz Typical GBW, 690 V/us Typical SR, 4.5 to 5.5 V, 16-Pin QFN (UD-16), Commercial, Pb-Free, Reel; Linear Technology Part Number: LTC6405; Manufacturer: Linear Technology; PartNumber: LTC6405CUD#TRPBF; Channels (#): 1; GBW (MHz) Typical: 2700; Is (mA) Typical: 18; SR (V/us) Typical: 690; Vos (mV) Typical: 6; Vs Max (V): 5.5; Vs Min (V): 4.5; DatasheetVersion: Rev. A; PackageReference: LT-UD-16; PackageDescription: 16-Lead Plastic QFN, Body 3.00 x 3.00 mm, Pitch 0.5 mm; Supplier 1: Digi-Key; Supplier Part Number 1: LTC6405CUD#TRPBF-ND; Supplier 2: Newark; Supplier Part Number 2: 15N3553; Packing: Reel; RoHS: Pb-Free; Type: DIFF; Mounting Technology: Surface Mount; Code_JEDEC: MO-220; ComponentLink1Description: Manufacturer URL; ComponentLink1URL: http://www.linear.com/; ComponentLink2Description: Datasheet; ComponentLink2URL: http://cds.linear.com/docs/en/datasheet/6405fa.pdf; ComponentLink3Description: Package Specification; ComponentLink3URL: http://cds.linear.com/docs/en/packaging/QFN_16_05-08-1691.pdf
footprint LT-UD-16_N (QFN, 16-Leads, Body 3x3mm, Pitch 0.5mm, Thermal Pad 1.45x1.45mm, IPC Medium Density)
footprint LT-UD-16_L (QFN, 16-Leads, Body 3x3mm, Pitch 0.5mm, Thermal Pad 1.45x1.45mm, IPC High Density)
footprint LT-UD-16_M (QFN, 16-Leads, Body 3x3mm, Pitch 0.5mm, Thermal Pad 1.45x1.45mm, IPC Low Density)
pins: 1 ~{SHDN} (in) "When S\H\D\N\ is fl oating or directly tied to V+, the LTC6405 is in the normal (active) operating mode. When the S\H\D\N\ pin is connected to V-, the LTC6405 enters into a low power shutdown state with Hi-Z outputs.", 2 V+ (power) "Power Supply Pins. It is critical that close attention be paid to supply bypassing. For single supply applications, it is recommended that a high quality 0.1uF surface mount ceramic bypass capacitor be placed between V+ and (See Datasheet)", 3 V- (power) "Power Supply Pins. It is critical that close attention be paid to supply bypassing. For single supply applications, it is recommended that a high quality 0.1uF surface mount ceramic bypass capacitor be placed between V+ and (See Datasheet)", 4 VOCM (in) "Output Common Mode Reference Voltage. The voltage on VOCM sets the output common mode voltage level (which is defi ned as the average of the voltages on the +OUT and -OUT pins). The VOCM voltage is internally set by a (See Datasheet)", 5 VTIP (in) "This pin can normally be left fl oating. It determines which pair of input transistors (NPN or PNP or both) is sensing the input signal. The VTIP pin is set by an internal resistive divider between the supplies, developing a (See Datasheet)", 6 -IN (in) "Noninverting and Inverting Input Pins of the Amplifi er, Respectively. For best performance, it is highly recommended that stray capacitance be kept to an absolute minimum by keeping printed circuit connections as short as (See Datasheet)", 7 +OUT (hiz) "Unfi ltered Output Pins. Besides driving the feedback network, each pin can drive an additional 50ohm to ground with typical short circuit current limiting of +/-60mA. Each amplifi er output is designed to drive a load (See Datasheet)", 8 +OUTF (hiz) "Filtered Output Pins. These pins have a series RC network (R = 50ohm, C = 3.75pF) connected between the fi ltered and unfi ltered outputs. See the Applications Information section for more details.", 9 V- (power) "Power Supply Pins. It is critical that close attention be paid to supply bypassing. For single supply applications, it is recommended that a high quality 0.1uF surface mount ceramic bypass capacitor be placed between V+ and (See Datasheet)", 10 V+ (power) "Power Supply Pins. It is critical that close attention be paid to supply bypassing. For single supply applications, it is recommended that a high quality 0.1uF surface mount ceramic bypass capacitor be placed between V+ and (See Datasheet)", 11 V+ (power) "Power Supply Pins. It is critical that close attention be paid to supply bypassing. For single supply applications, it is recommended that a high quality 0.1uF surface mount ceramic bypass capacitor be placed between V+ and (See Datasheet)", 12 V- (power) "Power Supply Pins. It is critical that close attention be paid to supply bypassing. For single supply applications, it is recommended that a high quality 0.1uF surface mount ceramic bypass capacitor be placed between V+ and (See Datasheet)", 13 -OUTF (hiz) "Filtered Output Pins. These pins have a series RC network (R = 50ohm, C = 3.75pF) connected between the fi ltered and unfi ltered outputs. See the Applications Information section for more details.", 14 -OUT (hiz) "Unfi ltered Output Pins. Besides driving the feedback network, each pin can drive an additional 50ohm to ground with typical short circuit current limiting of +/-60mA. Each amplifi er output is designed to drive a load (See Datasheet)", 15 +IN (in) "Noninverting and Inverting Input Pins of the Amplifi er, Respectively. For best performance, it is highly recommended that stray capacitance be kept to an absolute minimum by keeping printed circuit connections as short as (See Datasheet)", 16 NC "No Connection. This pin is not connected internally.", 17 EP (power) "Tie the bottom pad to V-. If split supplies are used, DO NOT tie the pad to ground."

## LTC6405IMS8E
designator U?
Single Channel, Low Noise, Rail-to-Rail Input Differential Amplifier / Driver, 2700 MHz Typical GBW, 690 V/us Typical SR, 4.5 to 5.5 V, 8-Pin SOP (MS8E-8), Industrial; Linear Technology Part Number: LTC6405; Manufacturer: Linear Technology; PartNumber: LTC6405IMS8E; Channels (#): 1; GBW (MHz) Typical: 2700; Is (mA) Typical: 18; SR (V/us) Typical: 690; Vos (mV) Typical: 6; Vs Max (V): 5.5; Vs Min (V): 4.5; DatasheetVersion: Rev. A; PackageVersion: Rev J; PackageReference: LT-MS8E-8-EDP; PackageDescription: 8-Lead Plastic MSOP, Body 3.00 x 3.00 mm. Pitch 0.65 mm; Type: DIFF; Mounting Technology: Surface Mount; ComponentLink1Description: Manufacturer URL; ComponentLink1URL: http://www.linear.com/; ComponentLink2Description: Datasheet; ComponentLink2URL: http://cds.linear.com/docs/en/datasheet/6405fa.pdf; ComponentLink3Description: Package Specification; ComponentLink3URL: http://cds.linear.com/docs/en/packaging/05081662_J_MS8E.pdf
footprint LT-MS8E-8-EDP_N (SOP, 8-Leads, Body 3x3mm, Pitch 0.65mm, Thermal Pad 1.88x1.68mm, IPC Medium Density)
footprint LT-MS8E-8-EDP_L (SOP, 8-Leads, Body 3x3mm, Pitch 0.65mm, Thermal Pad 1.88x1.68mm, IPC High Density)
footprint LT-MS8E-8-EDP_M (SOP, 8-Leads, Body 3x3mm, Pitch 0.65mm, Thermal Pad 1.88x1.68mm, IPC Low Density)
pins: 1 -IN (in) "Inverting  Pin of the Amplifi er, Respectively. For best perfor- mance, it is highly recommended that stray capacitance  be kept to an absolute minimum by keeping printed circuit  connections as short as possible.", 2 VOCM (in) "Output Common Mode Reference  Voltage. The voltage on VOCM sets the output common  mode voltage level (which is defi ned as the average of the  voltages on the +OUT and -OUT pins). The VOCM voltage  is internally set by a (See Datasheet)", 3 V+ (power) "Power Supply Pins. It is critical that close attention be  paid to supply bypassing. For single supply applications,  it is recommended that a high quality 0.1uF surface mount  ceramic bypass capacitor be placed between V+ (See Datasheet)", 4 +OUT (hiz) "Unfi ltered Output  Pins. Besides driving the feedback network, each pin  can drive an additional 50ohm to ground with typical short  circuit current limiting of +/-60mA. Each amplifi er output is designed to drive a load (See Datasheet)", 5 -OUT (hiz) "Unfi ltered Output  Pins. Besides driving the feedback network, each pin  can drive an additional 50ohm to ground with typical short  circuit current limiting of +/-60mA. Each amplifi er output is designed to drive a load (See Datasheet)", 6 V- (power) "Power Supply Pins. It is critical that close attention be  paid to supply bypassing. For single supply applications,  it is recommended that a high quality 0.1uF surface mount  ceramic bypass capacitor be placed between V+ (See Datasheet)", 7 ~{SHDN} (in) "When S\H\D\N\ is fl oating or directly  tied to V+, the LTC6405 is in the normal (active) operat- ing mode. When the S\H\D\N\ pin is connected to V-, the  LTC6405 enters into a low power shutdown state with  Hi-Z outputs.", 8 +IN (in) "Noninverting Pin of the Amplifi er, Respectively. For best perfor- mance, it is highly recommended that stray capacitance  be kept to an absolute minimum by keeping printed circuit  connections as short as possible.", 9 EP (power) "EXPOSED PAD"